# EAGLE library part LPY450AL (library ST Microelectronics)
MEMS motion sensor
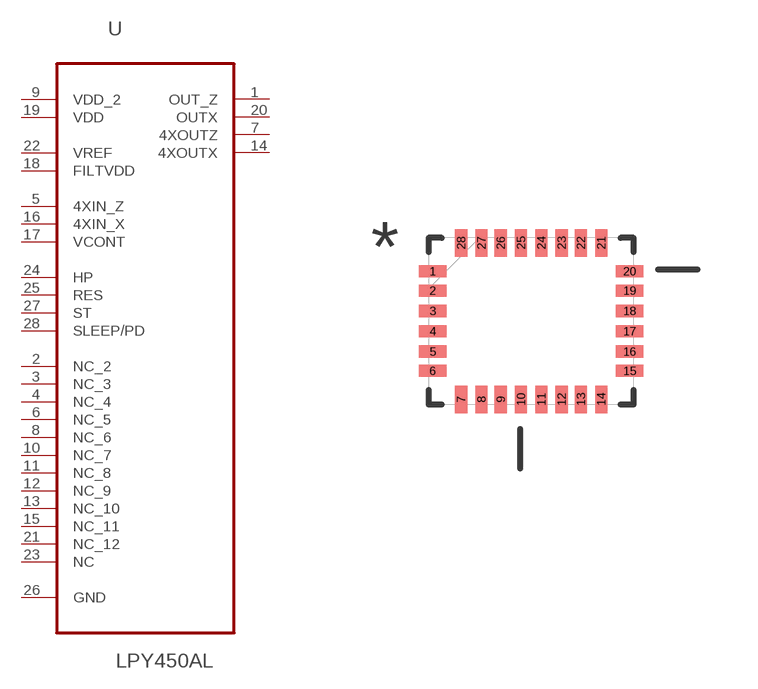
[diagram p134: symbol with the pads of LGA28R50P8X6_500X400X100; footprint LGA28R50P8X6_500X400X100]

Designator prefix U

## LPY450AL (MPN: LPY450AL; OC_FARNELL: 1838543; OC_NEWARK: 55R4222; PACKAGE: LGA-28; SUPPLIER: STMicroelectronics)  [LGA28R50P8X6_500X400X100]
1  OUT_Z  out
2  NC_2  nc
3  NC_3  nc
4  NC_4  nc
5  4XIN_Z  in
6  NC_5  nc
7  4XOUTZ  out
8  NC_6  nc
9  VDD_2  pwr
10  NC_7  nc
11  NC_8  nc
12  NC_9  nc
13  NC_10  nc
14  4XOUTX  out
15  NC_11  nc
16  4XIN_X  in
17  VCONT  in
18  FILTVDD  pwr
19  VDD  pwr
20  OUTX  out
21  NC_12  nc
22  VREF  in
23  NC  nc
24  HP  pas
25  RES  pas
26  GND  pas
27  ST  pas
28  SLEEP/PD  pas

## Footprint LGA28R50P8X6_500X400X100 (pad centres in mm)
smd 0.686 x 0.305: 1 -2.464,1.245; 2 -2.464,0.762; 3 -2.464,0.254; 4 -2.464,-0.254; 5 -2.464,-0.762; 6 -2.464,-1.245; 15 2.464,-1.245; 16 2.464,-0.762; 17 2.464,-0.254; 18 2.464,0.254; 19 2.464,0.762; 20 2.464,1.245
smd 0.305 x 0.686: 7 -1.753,-1.956; 8 -1.245,-1.956; 9 -0.762,-1.956; 10 -0.254,-1.956; 11 0.254,-1.956; 12 0.762,-1.956; 13 1.245,-1.956; 14 1.753,-1.956; 21 1.753,1.956; 22 1.245,1.956; 23 0.762,1.956; 24 0.254,1.956; 25 -0.254,1.956; 26 -0.762,1.956; 27 -1.245,1.956; 28 -1.753,1.956